# EAGLE library part K-30 (library duppy_common)
0.1" spaced headers
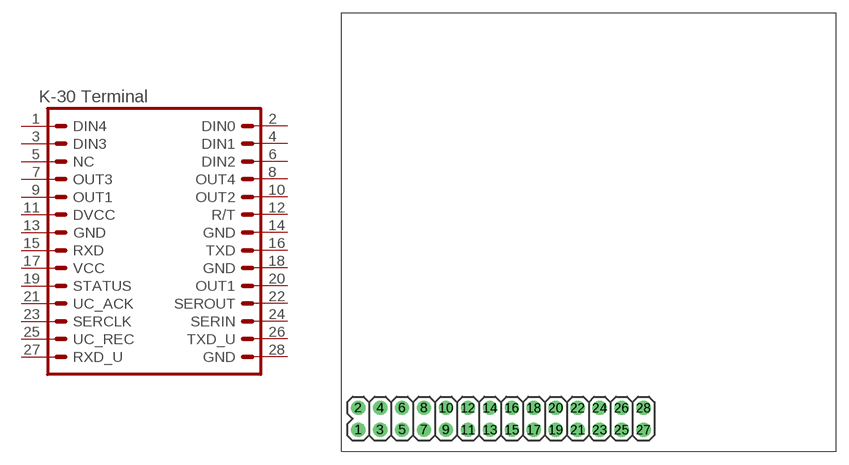
[diagram p0: symbol with the pads of K-30; footprint K-30]

Designator prefix JP

## K-30K-30  [K-30]
1  DIN4
2  DIN0
3  DIN3
4  DIN1
5  NC
6  DIN2
7  OUT3
8  OUT4
9  OUT1
10  OUT2
11  DVCC
12  R/T
13  GND
14  GND
15  RXD
16  TXD
17  VCC
18  GND
19  STATUS
20  OUT1
21  UC_ACK
22  SEROUT
23  SERCLK
24  SERIN
25  UC_REC
26  TXD_U
27  RXD_U
28  GND

## Footprint K-30 (pad centres in mm)
drill 1.016 pad 1.651: 1 1.905,2.54; 2 1.905,5.08; 3 4.445,2.54; 4 4.445,5.08; 5 6.985,2.54; 6 6.985,5.08; 7 9.525,2.54; 8 9.525,5.08; 9 12.065,2.54; 10 12.065,5.08; 11 14.605,2.54; 12 14.605,5.08; 13 17.145,2.54; 14 17.145,5.08; 15 19.685,2.54; 16 19.685,5.08; 17 22.225,2.54; 18 22.225,5.08; 19 24.765,2.54; 20 24.765,5.08; 21 27.305,2.54; 22 27.305,5.08; 23 29.845,2.54; 24 29.845,5.08; 25 32.385,2.54; 26 32.385,5.08; 27 34.925,2.54; 28 34.925,5.08